# EAGLE library part OPA4344 (library perspection)
IC OPAMP GP 1MHZ RRO 14TSSOP Digi-key Page <http://www.digikey.com/product-detail/en/OPA4344EA%2F250/OPA4344EACT-ND/362284>
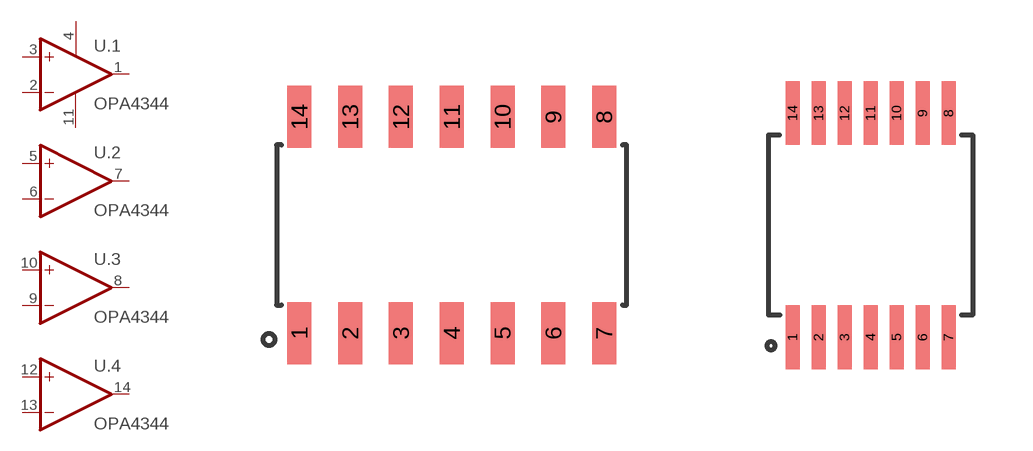
[diagram p5: symbol with the pads of SOIC-14; footprints SOIC-14, TSSOP-14]

Designator prefix U; gates .1=OPAMP+- .2=OPAMP .3=OPAMP .4=OPAMP

## OPA4344UA (DIST_NAME: Digi-Key; DIST_PN: OPA4344EACT-ND; MFG_NAME: Texas Instruments; MFG_PN: OPA4344EA/250)  [SOIC-14]
1  .1:OUT  out
2  .1:-IN  in
3  .1:+IN  in
4  .1:V+
5  .2:+IN  in
6  .2:-IN  in
7  .2:OUT  out
8  .3:OUT  out
9  .3:-IN  in
10  .3:+IN  in
11  .1:V-
12  .4:+IN  in
13  .4:-IN  in
14  .4:OUT  out

## OPA4344EA/250 (DIST_NAME: Digi-Key; DIST_PN: 620-1189-1-ND; MFG_NAME: Allegro MicroSystems, LLC; MFG_PN: ACS712ELCTR-05B-T)  [TSSOP-14]
Pads as for SOIC-14

## Footprint SOIC-14 (pad centres in mm)
smd 0.6 x 1.55: 1 -3.81,-2.7; 2 -2.54,-2.7; 3 -1.27,-2.7; 4 0,-2.7; 5 1.27,-2.7; 6 2.54,-2.7; 7 3.81,-2.7; 8 3.81,2.7; 9 2.54,2.7; 10 1.27,2.7; 11 0,2.7; 12 -1.27,2.7; 13 -2.54,2.7; 14 -3.81,2.7

## Footprint TSSOP-14 (pad centres in mm)
smd 0.35 x 1.6: 1 -1.95,-2.8; 2 -1.3,-2.8; 3 -0.65,-2.8; 4 0,-2.8; 5 0.65,-2.8; 6 1.3,-2.8; 7 1.95,-2.8; 8 1.95,2.8; 9 1.3,2.8; 10 0.65,2.8; 11 0,2.8; 12 -0.65,2.8; 13 -1.3,2.8; 14 -1.95,2.8